# EAGLE library part ESP8266 (library ESP-3-4)
low cost Wifi to Serial Module
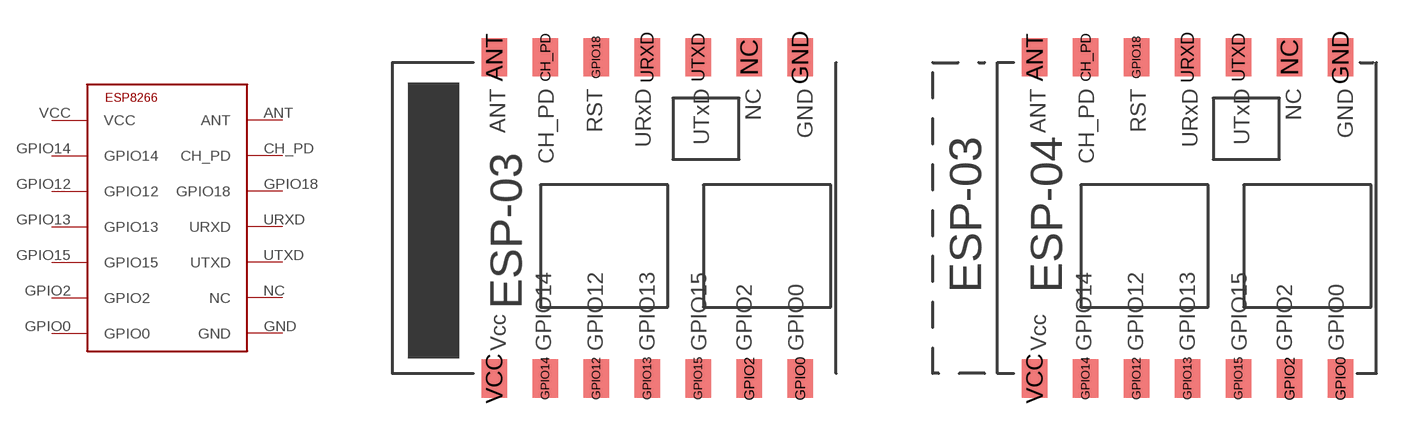
[diagram p0: symbol with the pads of ESP-03; footprints ESP-03, ESP-04]

Designator prefix -

## ESP8266  [ESP-03]
ANT  ANT
CH_PD  CH_PD
GND  GND
GPIO0  GPIO0
GPIO2  GPIO2
GPIO12  GPIO12
GPIO13  GPIO13
GPIO14  GPIO14
GPIO15  GPIO15
GPIO18  GPIO18
NC  NC
URXD  URXD
UTXD  UTXD
VCC  VCC

## ESP8266-04  [ESP-04]
Pads as for ESP-03

## Footprint ESP-03 (pad centres in mm)
smd 1 x 1.5: ANT 4,12.4; CH_PD 6,12.4; GND 16,12.4; GPIO0 16,-0.2; GPIO2 14,-0.2; GPIO12 8,-0.2; GPIO13 10,-0.2; GPIO14 6,-0.2; GPIO15 12,-0.2; GPIO18 8,12.4; NC 14,12.4; URXD 10,12.4; UTXD 12,12.4; VCC 4,-0.2

## Footprint ESP-04 (pad centres in mm)
smd 1 x 1.5: ANT 1.46,12.4; CH_PD 3.46,12.4; GND 13.46,12.4; GPIO0 13.46,-0.2; GPIO2 11.46,-0.2; GPIO12 5.46,-0.2; GPIO13 7.46,-0.2; GPIO14 3.46,-0.2; GPIO15 9.46,-0.2; GPIO18 5.46,12.4; NC 11.46,12.4; URXD 7.46,12.4; UTXD 9.46,12.4; VCC 1.46,-0.2